# Altium schematic symbol library LP2985-33DBVT.SchLib: 1 symbol
Pins are listed as number, name and electrical type; pins without a type are passive.

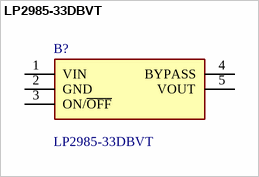
[diagram p0: symbol LP2985-33DBVT]

## LP2985-33DBVT
designator B?
150-mA LOW-NOISE LOW-DROPOUT REGULATOR WITH SHUTDOWN; Manufacturer_Name: Texas Instruments; Geometry.Height: 1.45mm; Mouser Part Number: 595-LP2985-33DBVT; Mouser Price/Stock: https://www.mouser.co.uk/ProductDetail/Texas-Instruments/LP2985-33DBVT?qs=paYhMW8qfivCywxvLCGbYQ%3D%3D; Manufacturer_Part_Number: LP2985-33DBVT; Datasheet Link: http://www.ti.com/lit/gpn/lp2985
footprint SOT95P280X145-5N
pins: 1 VIN, 2 GND, 3 ON/~{OFF}, 4 BYPASS, 5 VOUT